# Altium footprint library VESC_POWER.PcbLib: 22 footprints (part 2 of 2)
Each footprint in its own frame and in the unit in brackets; x right, y up, seen from the top. Pads: shape width x height; smd on the part's side, far side on the other; paste and mask are expansions set on the pad; w line width, h text height; cw(c..) or ccw(c..) is an arc to the next point about the centre after c.
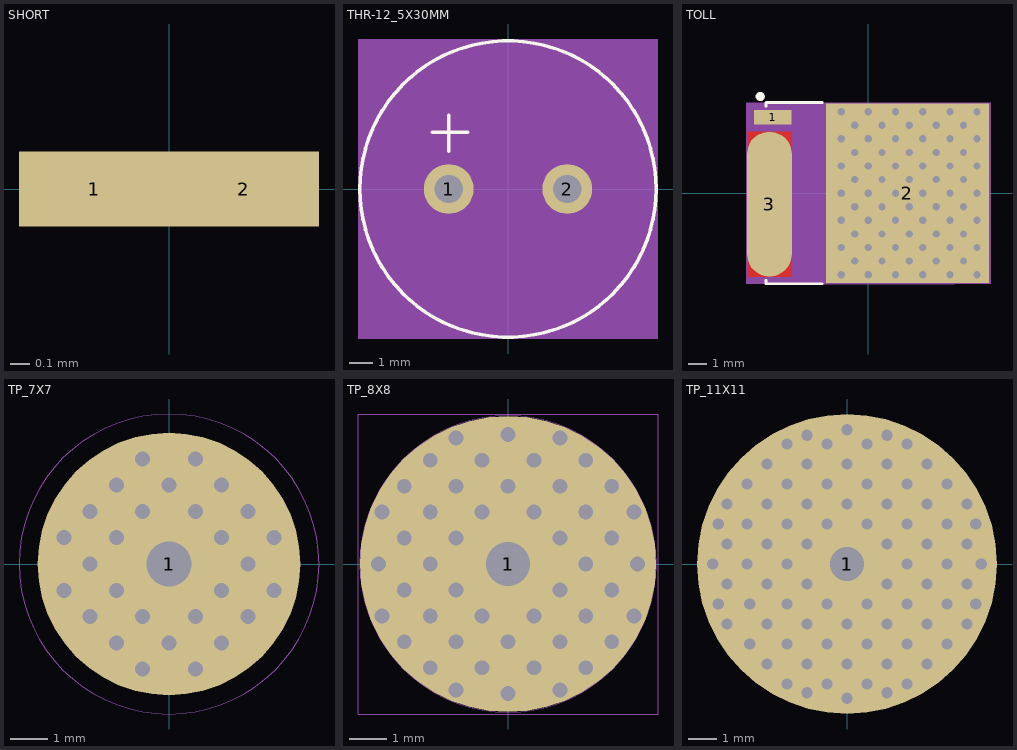
[diagram p1: the footprints below, top view; thin cyan lines are the x and y axes]

## SHORT [mil] "SHORT"
pads (2):
  rect 30x15 smd paste-99999 mask+0: 1(-14.9,0) 2(14.9,0)

## THR-12_5X30MM [mm] "THR-12_5X30MM"
pads (2):
  round 2.1 hole 1.2: 1(-2.5,0) 2(2.5,0)
Top Overlay:
  circle w0.15: c0,0 r6.25
  lines w0.15: -3.2,2.4 -1.7,2.4 ; -2.5,1.6 -2.5,3.1
Mechanical 7:
  circle w0.025: c0,0 r6.25
  region: -6.325,-6.325 6.325,-6.325 6.325,6.325 -6.325,6.325
Mechanical 8:
  text "1" at -3.77,0.508 h0.64
  text "2" at 1.23,0.508 h0.64
Mechanical 9:
  circle w0.025: c0,0 r6.25
3D body: height 3.81, standoff 0, extent -6.325,-6.325 6.325,6.325

## TOLL [mm] "TOLL"
pads (4):
  rect 2.063x0.8 smd: 1(-5.269,4.2)
  rect 9x9.9 smd: 2(2.15,0)
  oct 0.025x0.025 smd: 3(-5.46,-0.6)
  shape10 2.463x8 smd: 3(-5.46,-0.6)
via 6,4.5 diameter 0.6 hole 0.4
via 6,3 diameter 0.6 hole 0.4
via 6,1.5 diameter 0.6 hole 0.4
via 6,0 diameter 0.6 hole 0.4
via 6,-1.5 diameter 0.6 hole 0.4
via 6,-3 diameter 0.6 hole 0.4
via 6,-4.5 diameter 0.6 hole 0.4
via 4.5,4.5 diameter 0.6 hole 0.4
via 4.5,3 diameter 0.6 hole 0.4
via 5.25,3.75 diameter 0.6 hole 0.4
via 5.25,2.25 diameter 0.6 hole 0.4
via 4.5,1.5 diameter 0.6 hole 0.4
via 4.5,0 diameter 0.6 hole 0.4
via 5.25,0.75 diameter 0.6 hole 0.4
via 5.25,-0.75 diameter 0.6 hole 0.4
via 4.5,-1.5 diameter 0.6 hole 0.4
via 4.5,-3 diameter 0.6 hole 0.4
via 4.5,-4.5 diameter 0.6 hole 0.4
via 5.25,-2.25 diameter 0.6 hole 0.4
via 5.25,-3.75 diameter 0.6 hole 0.4
via 3,4.5 diameter 0.6 hole 0.4
via 3,3 diameter 0.6 hole 0.4
via 3,1.5 diameter 0.6 hole 0.4
via 3,0 diameter 0.6 hole 0.4
via 3,-1.5 diameter 0.6 hole 0.4
via 3,-3 diameter 0.6 hole 0.4
via 3,-4.5 diameter 0.6 hole 0.4
via 3.75,-3.75 diameter 0.6 hole 0.4
via 3.75,-2.25 diameter 0.6 hole 0.4
via 3.75,-0.75 diameter 0.6 hole 0.4
via 3.75,0.75 diameter 0.6 hole 0.4
via 3.75,2.25 diameter 0.6 hole 0.4
via 3.75,3.75 diameter 0.6 hole 0.4
via 1.5,4.5 diameter 0.6 hole 0.4
via 0,4.5 diameter 0.6 hole 0.4
via -1.5,4.5 diameter 0.6 hole 0.4
via -0.75,3.75 diameter 0.6 hole 0.4
via 0.75,3.75 diameter 0.6 hole 0.4
via 2.25,3.75 diameter 0.6 hole 0.4
via 1.5,3 diameter 0.6 hole 0.4
via 1.5,1.5 diameter 0.6 hole 0.4
via 1.5,0 diameter 0.6 hole 0.4
via 1.5,-1.5 diameter 0.6 hole 0.4
via 1.5,-3 diameter 0.6 hole 0.4
via 1.5,-4.5 diameter 0.6 hole 0.4
via 0,3 diameter 0.6 hole 0.4
via -1.5,3 diameter 0.6 hole 0.4
via -1.5,1.5 diameter 0.6 hole 0.4
via 0,1.5 diameter 0.6 hole 0.4
via -1.5,0 diameter 0.6 hole 0.4
via 0,0 diameter 0.6 hole 0.4
via 0,-1.5 diameter 0.6 hole 0.4
via -1.5,-1.5 diameter 0.6 hole 0.4
via -1.5,-3 diameter 0.6 hole 0.4
via 0,-3 diameter 0.6 hole 0.4
via -1.5,-4.5 diameter 0.6 hole 0.4
via 0,-4.5 diameter 0.6 hole 0.4
via -0.75,-3.75 diameter 0.6 hole 0.4
via 0.75,-3.75 diameter 0.6 hole 0.4
via 2.25,2.25 diameter 0.6 hole 0.4
via 0.75,2.25 diameter 0.6 hole 0.4
via -0.75,2.25 diameter 0.6 hole 0.4
via -0.75,0.75 diameter 0.6 hole 0.4
via 0.75,0.75 diameter 0.6 hole 0.4
via -0.75,-0.75 diameter 0.6 hole 0.4
via 0.75,-0.75 diameter 0.6 hole 0.4
via 2.25,0.75 diameter 0.6 hole 0.4
via 2.25,-0.75 diameter 0.6 hole 0.4
via 2.25,-2.25 diameter 0.6 hole 0.4
via 0.75,-2.25 diameter 0.6 hole 0.4
via -0.75,-2.25 diameter 0.6 hole 0.4
via 2.25,-3.75 diameter 0.6 hole 0.4
Top Layer:
  region: -6.691,3.4 -4.228,3.4 -4.228,-4.6 -6.691,-4.6 -6.691,-3.8 -4.991,-3.8 -4.991,-3.4 -6.691,-3.4 -6.691,-2.6 -4.991,-2.6 -4.991,-2.2 -6.691,-2.2 -6.691,-1.4 -4.991,-1.4 -4.991,-1 -6.691,-1 -6.691,-0.2 -4.991,-0.2 -4.991,0.2 -6.691,0.2 -6.691,1 -4.991,1 -4.991,1.4 -6.691,1.4 -6.691,2.2 -4.991,2.2 -4.991,2.6 -6.691,2.6
Top Overlay:
  circle w0.254: c-5.969,5.334 r0.127
  lines w0.15: -5.65,-4.8 -5.65,-5 -2.55,-5 ; -5.65,4.8 -5.65,5 -2.55,5
Top Paste:
  region: -6.691,3.4 -4.228,3.4 -4.228,-4.6 -6.691,-4.6 -6.691,-3.8 -4.991,-3.8 -4.991,-3.4 -6.691,-3.4 -6.691,-2.6 -4.991,-2.6 -4.991,-2.2 -6.691,-2.2 -6.691,-1.4 -4.991,-1.4 -4.991,-1 -6.691,-1 -6.691,-0.2 -4.991,-0.2 -4.991,0.2 -6.691,0.2 -6.691,1 -4.991,1 -4.991,1.4 -6.691,1.4 -6.691,2.2 -4.991,2.2 -4.991,2.6 -6.691,2.6
  region: -6.691,3.4 -4.228,3.4 -4.228,-4.6 -6.691,-4.6 -6.691,-3.8 -4.991,-3.8 -4.991,-3.4 -6.691,-3.4 -6.691,-2.6 -4.991,-2.6 -4.991,-2.2 -6.691,-2.2 -6.691,-1.4 -4.991,-1.4 -4.991,-1 -6.691,-1 -6.691,-0.2 -4.991,-0.2 -4.991,0.2 -6.691,0.2 -6.691,1 -4.991,1 -4.991,1.4 -6.691,1.4 -6.691,2.2 -4.991,2.2 -4.991,2.6 -6.691,2.6
Top Solder:
  region: -6.741,3.45 -4.178,3.45 -4.178,-4.65 -6.741,-4.65 -6.741,-3.75 -5.041,-3.75 -5.041,-3.45 -6.741,-3.45 -6.741,-2.55 -5.041,-2.55 -5.041,-2.25 -6.741,-2.25 -6.741,-1.35 -5.041,-1.35 -5.041,-1.05 -6.741,-1.05 -6.741,-0.15 -5.041,-0.15 -5.041,0.15 -6.741,0.15 -6.741,1.05 -5.041,1.05 -5.041,1.35 -6.741,1.35 -6.741,2.25 -5.041,2.25 -5.041,2.55 -6.741,2.55
  region: -6.741,3.45 -4.178,3.45 -4.178,-4.65 -6.741,-4.65 -6.741,-3.75 -5.041,-3.75 -5.041,-3.45 -6.741,-3.45 -6.741,-2.55 -5.041,-2.55 -5.041,-2.25 -6.741,-2.25 -6.741,-1.35 -5.041,-1.35 -5.041,-1.05 -6.741,-1.05 -6.741,-0.15 -5.041,-0.15 -5.041,0.15 -6.741,0.15 -6.741,1.05 -5.041,1.05 -5.041,1.35 -6.741,1.35 -6.741,2.25 -5.041,2.25 -5.041,2.55 -6.741,2.55
Mechanical 7:
  region: -6.75,-5 6.75,-5 6.75,5 -6.75,5
Mechanical 8:
  text "2" at 2.15,-0.762 h0.64
  text "3" at -5.95,-0.392 h0.64
  text "1" at -5.85,4.408 h0.64
Mechanical 9:
  lines w0.025: -5.65,-5 -5.65,5 4.75,5 4.75,-5 -5.65,-5
3D body "IAUT300N10S5N015ATMA1.stp": height 2.3, standoff 0, extent -6.041,-4.95 5.633,4.95

## TP_7X7 [mm] "TP_7X7"
pads (2):
  round 7 smd: 1(0,0)
  round 1.524 hole 1.2: 1(0,0)
via 0,-2.1 diameter 0.6 hole 0.4
via 2.1,0 diameter 0.6 hole 0.4
via 0,2.1 diameter 0.6 hole 0.4
via -2.1,0 diameter 0.6 hole 0.4
via -0.7,-1.4 diameter 0.6 hole 0.4
via -0.7,-2.8 diameter 0.6 hole 0.4
via -1.4,-2.1 diameter 0.6 hole 0.4
via -1.4,-0.7 diameter 0.6 hole 0.4
via -2.1,-1.4 diameter 0.6 hole 0.4
via -2.8,-0.7 diameter 0.6 hole 0.4
via -2.8,0.7 diameter 0.6 hole 0.4
via -1.4,0.7 diameter 0.6 hole 0.4
via -0.7,1.4 diameter 0.6 hole 0.4
via -0.7,2.8 diameter 0.6 hole 0.4
via -1.4,2.1 diameter 0.6 hole 0.4
via -2.1,1.4 diameter 0.6 hole 0.4
via 0.7,2.8 diameter 0.6 hole 0.4
via 0.7,1.4 diameter 0.6 hole 0.4
via 0.7,-1.4 diameter 0.6 hole 0.4
via 0.7,-2.8 diameter 0.6 hole 0.4
via 1.4,-0.7 diameter 0.6 hole 0.4
via 2.8,-0.7 diameter 0.6 hole 0.4
via 2.8,0.7 diameter 0.6 hole 0.4
via 1.4,0.7 diameter 0.6 hole 0.4
via 2.1,1.4 diameter 0.6 hole 0.4
via 1.4,2.1 diameter 0.6 hole 0.4
via 1.4,-2.1 diameter 0.6 hole 0.4
via 2.1,-1.4 diameter 0.6 hole 0.4
Mechanical 8:
  text "1" at -1.778,0 h0.64
Mechanical 9:
  circle w0.025: c0,0 r4
3D body "M3_6mm.step": height 6, standoff -0.9, extent -3.35,-3.347 3.338,3.347

## TP_8X8 [mm] "TP_8X8"
pads (2):
  round 8 smd: 1(0,0)
  round 1.524 hole 1.2: 1(0,0)
via 0,-2.1 diameter 0.6 hole 0.4
via 0,-3.5 diameter 0.6 hole 0.4
via 2.1,0 diameter 0.6 hole 0.4
via 3.5,0 diameter 0.6 hole 0.4
via 0,2.1 diameter 0.6 hole 0.4
via 0,3.5 diameter 0.6 hole 0.4
via -2.1,0 diameter 0.6 hole 0.4
via -3.5,0 diameter 0.6 hole 0.4
via -0.7,-1.4 diameter 0.6 hole 0.4
via -0.7,-2.8 diameter 0.6 hole 0.4
via -1.4,-2.1 diameter 0.6 hole 0.4
via -1.4,-0.7 diameter 0.6 hole 0.4
via -2.1,-1.4 diameter 0.6 hole 0.4
via -2.1,-2.8 diameter 0.6 hole 0.4
via -2.8,-0.7 diameter 0.6 hole 0.4
via -2.8,-2.1 diameter 0.6 hole 0.4
via -2.8,0.7 diameter 0.6 hole 0.4
via -1.4,0.7 diameter 0.6 hole 0.4
via -0.7,1.4 diameter 0.6 hole 0.4
via -0.7,2.8 diameter 0.6 hole 0.4
via -1.4,2.1 diameter 0.6 hole 0.4
via -2.1,1.4 diameter 0.6 hole 0.4
via -2.8,2.1 diameter 0.6 hole 0.4
via -2.1,2.8 diameter 0.6 hole 0.4
via 0.7,2.8 diameter 0.6 hole 0.4
via 0.7,1.4 diameter 0.6 hole 0.4
via 0.7,-1.4 diameter 0.6 hole 0.4
via 0.7,-2.8 diameter 0.6 hole 0.4
via 1.4,-0.7 diameter 0.6 hole 0.4
via 2.8,-0.7 diameter 0.6 hole 0.4
via 2.8,0.7 diameter 0.6 hole 0.4
via 1.4,0.7 diameter 0.6 hole 0.4
via 2.1,1.4 diameter 0.6 hole 0.4
via 2.8,2.1 diameter 0.6 hole 0.4
via 1.4,2.1 diameter 0.6 hole 0.4
via 1.4,-2.1 diameter 0.6 hole 0.4
via 2.1,-1.4 diameter 0.6 hole 0.4
via 2.1,-2.8 diameter 0.6 hole 0.4
via 2.8,-2.1 diameter 0.6 hole 0.4
via 2.1,2.8 diameter 0.6 hole 0.4
via 3.4,1.4 diameter 0.6 hole 0.4
via 1.4,3.4 diameter 0.6 hole 0.4
via -1.4,3.4 diameter 0.6 hole 0.4
via -3.4,1.4 diameter 0.6 hole 0.4
via -3.4,-1.4 diameter 0.6 hole 0.4
via -1.4,-3.4 diameter 0.6 hole 0.4
via 1.4,-3.4 diameter 0.6 hole 0.4
via 3.4,-1.4 diameter 0.6 hole 0.4
Mechanical 7:
  circle w0.025: c0,0 r4
  lines w0.025: -4.05,-4.05 4.05,-4.05 4.05,4.05 -4.05,4.05 -4.05,-4.05
Mechanical 8:
  text "1" at -1.778,0 h0.64
Mechanical 9:
  circle w0.025: c0,0 r4
3D body "23mm.step": height 23, standoff 0, extent -3.75,-3.747 3.738,3.747

## TP_11X11 [mm] "TP_8X8"
pads (2):
  round 10.5 smd: 1(0,0)
  round 1.2 hole 1.2: 1(0,0)
via -4.2,-2.1 diameter 0.6 hole 0.4
via -4.5,1.4 diameter 0.6 hole 0.4
via -4.5,-1.4 diameter 0.6 hole 0.4
via -1.4,4.5 diameter 0.6 hole 0.4
via 1.4,4.5 diameter 0.6 hole 0.4
via 4.2,2.1 diameter 0.6 hole 0.4
via 4.5,-1.4 diameter 0.6 hole 0.4
via 2.1,-4.2 diameter 0.6 hole 0.4
via -2.1,-4.2 diameter 0.6 hole 0.4
via -4.2,2.1 diameter 0.6 hole 0.4
via 1.4,-4.5 diameter 0.6 hole 0.4
via -1.4,-4.5 diameter 0.6 hole 0.4
via 4.5,1.4 diameter 0.6 hole 0.4
via 4.7,0 diameter 0.6 hole 0.4
via 4.2,-2.1 diameter 0.6 hole 0.4
via 3.5,-1.4 diameter 0.6 hole 0.4
via 3.5,-2.8 diameter 0.6 hole 0.4
via 2.8,-3.5 diameter 0.6 hole 0.4
via 0,-4.7 diameter 0.6 hole 0.4
via 0.7,-4.2 diameter 0.6 hole 0.4
via -0.7,-4.2 diameter 0.6 hole 0.4
via -2.8,-3.5 diameter 0.6 hole 0.4
via -3.4,-2.8 diameter 0.6 hole 0.4
via -4.7,0 diameter 0.6 hole 0.4
via -4.2,-0.7 diameter 0.6 hole 0.4
via -4.2,0.7 diameter 0.6 hole 0.4
via 4.2,-0.7 diameter 0.6 hole 0.4
via 4.2,0.7 diameter 0.6 hole 0.4
via 3.5,1.4 diameter 0.6 hole 0.4
via 3.5,2.8 diameter 0.6 hole 0.4
via 2.8,3.5 diameter 0.6 hole 0.4
via 2.1,4.2 diameter 0.6 hole 0.4
via -3.5,1.4 diameter 0.6 hole 0.4
via -3.5,2.8 diameter 0.6 hole 0.4
via -2.8,3.5 diameter 0.6 hole 0.4
via -2.1,4.2 diameter 0.6 hole 0.4
via 0.7,4.2 diameter 0.6 hole 0.4
via -0.7,4.2 diameter 0.6 hole 0.4
via 0,4.7 diameter 0.6 hole 0.4
via 1.4,-3.5 diameter 0.6 hole 0.4
via -1.4,-3.5 diameter 0.6 hole 0.4
via -3.4,-1.4 diameter 0.6 hole 0.4
via -1.4,3.5 diameter 0.6 hole 0.4
via 1.4,3.5 diameter 0.6 hole 0.4
via 2.1,2.8 diameter 0.6 hole 0.4
via 2.8,-2.1 diameter 0.6 hole 0.4
via 2.1,-2.8 diameter 0.6 hole 0.4
via 2.1,-1.4 diameter 0.6 hole 0.4
via 1.4,-2.1 diameter 0.6 hole 0.4
via 1.4,2.1 diameter 0.6 hole 0.4
via 2.8,2.1 diameter 0.6 hole 0.4
via 2.1,1.4 diameter 0.6 hole 0.4
via 1.4,0.7 diameter 0.6 hole 0.4
via 2.8,-0.7 diameter 0.6 hole 0.4
via 1.4,-0.7 diameter 0.6 hole 0.4
via 0.7,-2.8 diameter 0.6 hole 0.4
via 0.7,-1.4 diameter 0.6 hole 0.4
via 0.7,1.4 diameter 0.6 hole 0.4
via 0.7,2.8 diameter 0.6 hole 0.4
via -2.1,2.8 diameter 0.6 hole 0.4
via -2.8,2.1 diameter 0.6 hole 0.4
via -2.1,1.4 diameter 0.6 hole 0.4
via -1.4,2.1 diameter 0.6 hole 0.4
via -0.7,2.8 diameter 0.6 hole 0.4
via -0.7,1.4 diameter 0.6 hole 0.4
via -1.4,0.7 diameter 0.6 hole 0.4
via -2.8,0.7 diameter 0.6 hole 0.4
via -2.8,-2.1 diameter 0.6 hole 0.4
via -2.8,-0.7 diameter 0.6 hole 0.4
via -2.1,-2.8 diameter 0.6 hole 0.4
via -2.1,-1.4 diameter 0.6 hole 0.4
via -1.4,-0.7 diameter 0.6 hole 0.4
via -1.4,-2.1 diameter 0.6 hole 0.4
via -0.7,-2.8 diameter 0.6 hole 0.4
via -0.7,-1.4 diameter 0.6 hole 0.4
via -3.5,0 diameter 0.6 hole 0.4
via -2.1,0 diameter 0.6 hole 0.4
via 0,3.5 diameter 0.6 hole 0.4
via 0,2.1 diameter 0.6 hole 0.4
via 3.5,0 diameter 0.6 hole 0.4
via 2.1,0 diameter 0.6 hole 0.4
via 0,-3.5 diameter 0.6 hole 0.4
via 0,-2.1 diameter 0.6 hole 0.4
via 2.8,0.7 diameter 0.6 hole 0.4
Mechanical 8:
  text "1" at -1.778,0 h0.64
Mechanical 9:
  circle w0.025: c0,0 r4
3D body "M6_25mm.step": height 26.4, standoff -0.9, extent -5,-4.997 4.987,4.997